# Altium integrated library InterfaceControllers_001.IntLib: 1 symbol
Pins are listed as number, name and electrical type; pins without a type are passive.

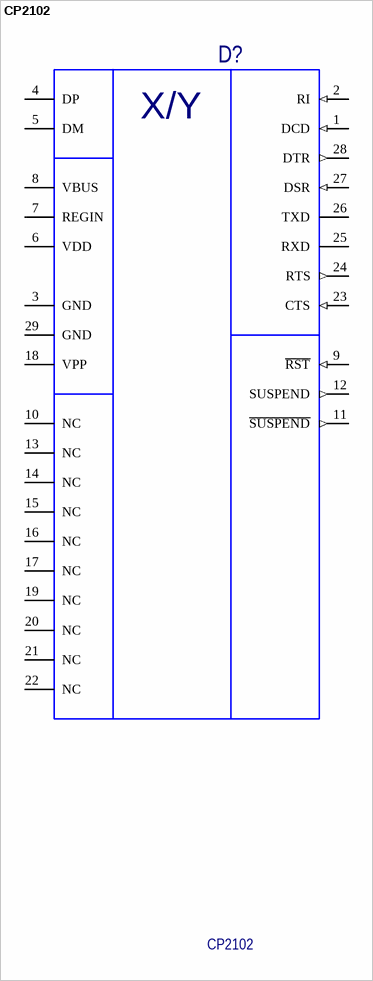
[diagram p0: symbol CP2102]

## CP2102
designator D?
CP2102 - Single-Chip USB-to-UART Bridge; Part Number: CP2102-GM; Vender: Silicon Labs; ВП Описание: Микросхема_CP2102-GM; Наименование: Микросхема; Value: CP2102; ComponentLink1Description: DataSheet; Manufacturer: Silicon Labs; StandartDoc: Silicon Labs
footprint QFN28_5x5_pitch0.5
pins: 1 DCD (in), 2 RI (in), 3 GND, 4 DP, 5 DM, 6 VDD, 7 REGIN, 8 VBUS, 9 ~{RST} (in), 10 NC, 11 ~{SUSPEND} (out), 12 SUSPEND (out), 13 NC, 14 NC, 15 NC, 16 NC, 17 NC, 18 VPP, 19 NC, 20 NC, 21 NC, 22 NC, 23 CTS (in), 24 RTS (out), 25 RXD, 26 TXD, 27 DSR (in), 28 DTR (out), 29 GND
text: X/Y